# EAGLE library part VD (library ic)
DC/DC Converter
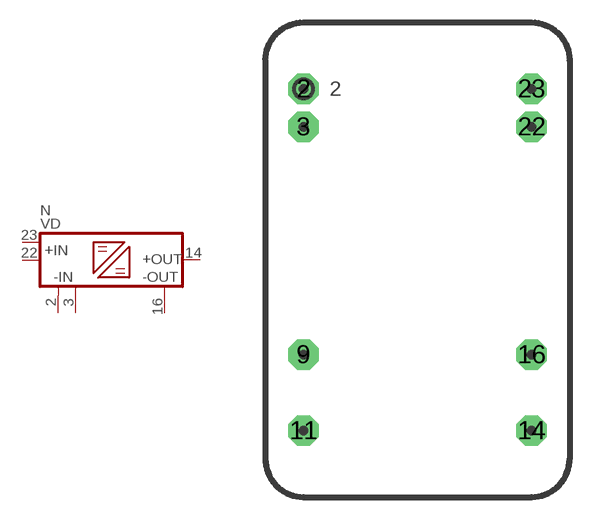
[diagram p43: symbol with the pads of TEN4; footprint TEN4]

Designator prefix N

## VD  [TEN4]
2  -IN  pwr
3  -IN  pwr
14  +OUT  pwr
16  -OUT  pwr
22  +IN  pwr
23  +IN  pwr

## Footprint TEN4 (pad centres in mm)
TEN 4 Traco Power DC/DC converter TEN 4 series (4W) Metal case 20*32mm
drill 0.813 pad 2.032 octagon: 2 -7.62,11.43; 3 -7.62,8.89; 9 -7.62,-6.35; 11 -7.62,-11.43; 14 7.62,-11.43; 16 7.62,-6.35; 22 7.62,8.89; 23 7.62,11.43